# Altium schematic symbol library AnalogDevices.SchLib: 1 symbol
Pins are listed as number, name and electrical type; pins without a type are passive.

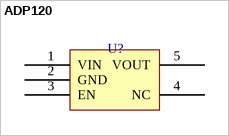
[diagram p0: symbol ADP120]

## ADP120
designator U?  (value not drawn)
footprint SOT95P280X110-5L (SOT23, 5-Leads, Body 3,0x2,8mm (max), Pitch 0,95mm, IPC High Density)
pins: 1 VIN, 2 GND, 3 EN, 4 NC, 5 VOUT